# Altium schematic symbol library dinhdung.SCHLIB: 26 symbols
Pins are listed as number, name and electrical type; pins without a type are passive.

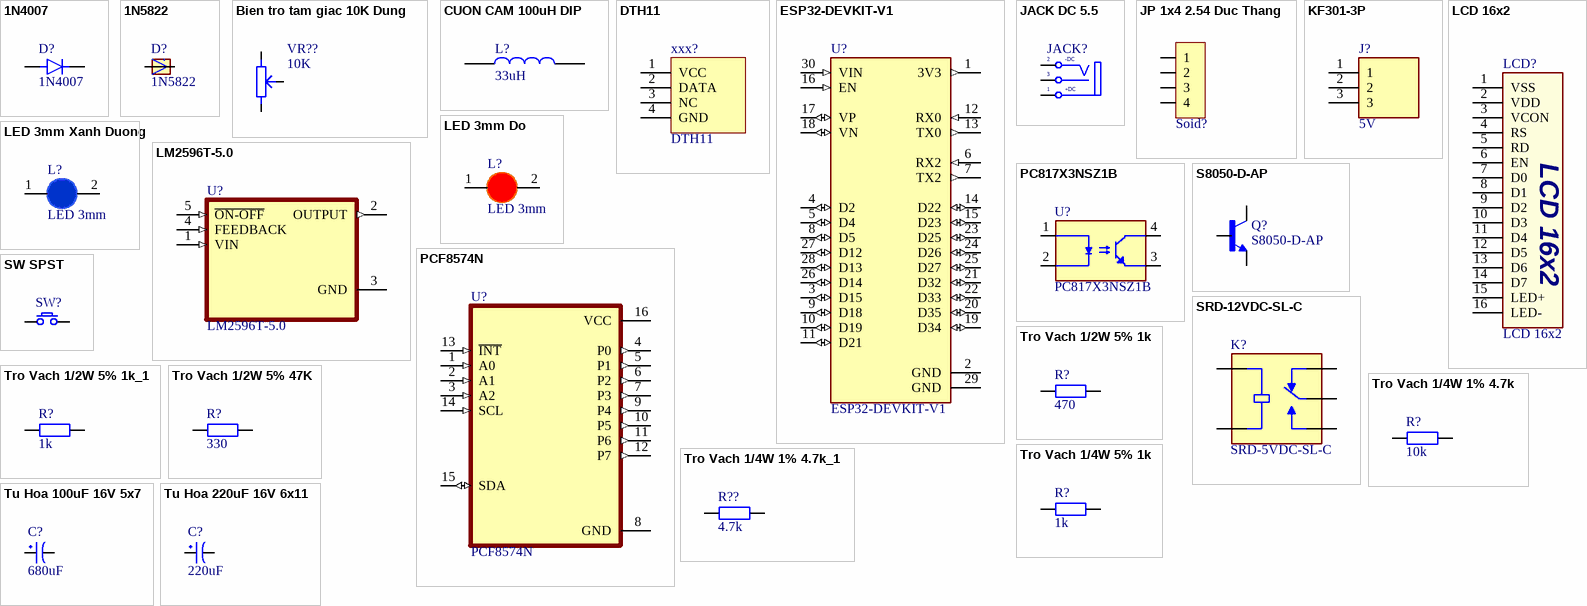
[diagram p0: symbols 1N4007 to Tu Hoa 220uF 16V 6x11]

## 1N4007
designator D?
Diode Switching 1KV 1A Automotive 2-Pin Ammo; MF: EIC; SnapEDA_Link: https://www.snapeda.com/parts/1N4007/EIC+Semiconductor/view-part/?ref=snap; Package: None; Value: *; MP: 1N4007; Check_prices: https://www.snapeda.com/parts/1N4007/EIC+Semiconductor/view-part/?ref=eda
footprint DIOAD1060W80L520D270
pins: A, C

## 1N5822
designator D?
Schottky, DO-201, 40V, 3A, 150Â°C; MF: Diotec Semiconductor; SnapEDA_Link: https://www.snapeda.com/parts/1N5822/Diotec/view-part/?ref=snap; Package: DO-201 Diotec; Value: *; MP: 1N5822; Check_prices: https://www.snapeda.com/parts/1N5822/Diotec/view-part/?ref=eda
footprint DIOAD2120W130L950D530P
pins: A, C

## Bien tro tam giac 10K Dung
designator VR??, comment 10K
Cắm; Ma_Hang: MH000919; Don_Vi: Con; Ten_Linh_Kien: Biến Trở Tam Giác 103-10K RM065 (Chân Đứng); Chung_Loai: Cắm; Kieu_Chan: *
footprint Bien Tro Tam Giac Dung (RM065)
pins: 1, 2, 3

## CUON CAM 100uH DIP
designator L?, comment 33uH
Dán; Don_Vi: Con; Ma_Hang: MH002209; Ten_Linh_Kien: Cuộn Cảm 100uH 3A 8x10MM; Chung_Loai: Dán; Ghi Chu: *; Kieu Chan: *
footprint CUON CAM 100uH3A (100uH3A)
pins: 1, 2

## DTH11
designator xxx?
Temperature and humidity module
footprint DTH11 (Temperature and humidity module)
footprint DTH11/H (Temperature and humidity module)
pins: 1 VCC "power supply 3.5～5.5V DC", 2 DATA "serial data, a single bus", 3 NC "empty pin", 4 GND "ground, the negative power"

## ESP32-DEVKIT-V1
designator U?
Dual core, Wi-Fi: 2.4 GHz up to 150 Mbits/s,BLE (Bluetooth Low Energy) and legacy Bluetooth, 32 bits, Up to 240 MHz; MF: Do it; SnapEDA_Link: https://www.snapeda.com/parts/ESP32-DEVKIT-V1/Do+it/view-part/?ref=snap; Package: None; Value: *; MP: ESP32-DEVKIT-V1; Check_prices: https://www.snapeda.com/parts/ESP32-DEVKIT-V1/Do+it/view-part/?ref=eda
footprint MODULE_ESP32_DEVKIT_V1
pins: 1 3V3 (out), 2 GND (power), 3 D15 (io), 4 D2 (io), 5 D4 (io), 6 RX2 (in), 7 TX2 (out), 8 D5 (io), 9 D18 (io), 10 D19 (io), 11 D21 (io), 12 RX0 (in), 13 TX0 (out), 14 D22 (io), 15 D23 (io), 16 EN (in), 17 VP (io), 18 VN (io), 19 D34 (io), 20 D35 (io), 21 D32 (io), 22 D33 (io), 23 D25 (io), 24 D26 (io), 25 D27 (io), 26 D14 (io), 27 D12 (io), 28 D13 (io), 29 GND (power), 30 VIN (in)

## JACK DC 5.5
designator JACK?
JACK DC 5.5; Value: Jac DC
footprint JACK DC 5.5 (Jac DC input)
pins: 1 T "Tip", 2 TN "Tip Normal (Break Contact)", 3 S (power) "Sleeve (Ground)"
text: -DC; +DC

## JP 1x4 2.54 Duc Thang
designator Soid?, comment JP 1x4 2.54  (value not drawn)
Cắm; Ten_Linh_Kien: Jump Đơn Đực 2.54MM 1x40P Thẳng 11MM; Don_Vi: Con; Ma_Hang: MH000903; Ghi_Chu: *; Kieu_Chan: *; Chung_Loai: Cắm
footprint JP 1x4 DT (4 pins, 1 row, straight, gold plating)
pins: 1, 2, 3, 4

## KF301-3P
designator J?, comment 5V
Terminal Block 5mm Pitch 3 Poles; Manufacturer_Name: Handson Technology; Manufacturer_Part_Number: KF301-3P; Geometry.Height: 10mm; Mouser Part Number: *; Mouser Price/Stock: *; Arrow Part Number: *; Arrow Price/Stock: *; Datasheet Link: http://www.handsontec.com/dataspecs/terminal%20block-5mm.pdf
footprint KF3013P
pins: 1, 2, 3

## LCD 16x2
designator LCD?
Character LCD 16x2
footprint LCD 16x2
footprint LCD 1602A
footprint LCD 1602B
pins: 1 VSS, 2 VDD, 3 VCON, 4 RS, 5 RD, 6 EN, 7 D0, 8 D1, 9 D2, 10 D3, 11 D4, 12 D5, 13 D6, 14 D7, 15 LED+, 16 LED-

## LED 3mm Do
designator L?, comment LED 3mm
Cắm; Don_Vi: Con; Ma_Hang: MH003892; Ten_Linh_Kien: Led 3MM Phủ Đỏ (10c); Ghi_Chu: *; Kieu_Chan: *; Chung_Loai: Cắm
footprint LED-3MM-RED
pins: 1 A, 2 K

## LED 3mm Xanh Duong
designator L?, comment LED 3mm
Cắm; Don_Vi: Con; Ma_Hang: MH009003; Ten_Linh_Kien: LED 3MM Xanh Dương SS (1000c); Ghi_Chu: *; Kieu_Chan: *; Chung_Loai: Cắm
footprint LED-3MM-BLUE
pins: 1 A, 2 K

## LM2596T-5.0
designator U?
SIMPLE SWITCHERÂ® 4.5V to 40V, 3A Low Component Count Step-Down Regulator 5-TO-220; MF: Texas Instruments; SnapEDA_Link: https://www.snapeda.com/parts/LM2596T-5.0/Texas+Instruments/view-part/?ref=snap; Package: TO-220-5 Texas Instruments; Value: *; MP: LM2596T-5.0; Check_prices: https://www.snapeda.com/parts/LM2596T-5.0/Texas+Instruments/view-part/?ref=eda
footprint TO170P1016X470X2092-5
pins: 1 VIN (in), 2 OUTPUT (out), 3 GND (power), 4 FEEDBACK (in), 5 ~{ON-OFF} (in)

## PC817X3NSZ1B
designator U?
Optoisolator Transistor Output - 1 Channel 4-DIP; MF: Sharp Microelectronics; SnapEDA_Link: https://www.snapeda.com/parts/PC817X3NSZ1B/Sharp+Microelectronics/view-part/?ref=snap; Price: None; Purchase-URL: https://pricing.snapeda.com/search/part/PC817X3NSZ1B/?ref=eda; Check_prices: https://www.snapeda.com/parts/PC817X3NSZ1B/Sharp+Microelectronics/view-part/?ref=eda; MP: PC817X3NSZ1B; Value: *; Availability: In Stock; Package: DIP-4 Sharp Microelectronics
footprint DIP762W50P254L495H455Q4
pins: 1 ANODE, 2 CATHODE, 3 EMITTER, 4 COLLECTOR

## PCF8574N
designator U?
8-bit 2.5- to 5.5-V I2C/SMBus I/O expander with interrupt; MF: Texas Instruments; SnapEDA_Link: https://www.snapeda.com/parts/PCF8574N/Texas+Instruments/view-part/?ref=snap; Package: PDIP-16 Texas Instruments; Value: *; MP: PCF8574N; Check_prices: https://www.snapeda.com/parts/PCF8574N/Texas+Instruments/view-part/?ref=eda
footprint DIP794W45P254L1969H508Q16
pins: 1 A0 (in), 2 A1 (in), 3 A2 (in), 4 P0 (out), 5 P1 (out), 6 P2 (out), 7 P3 (out), 8 GND (power), 9 P4 (out), 10 P5 (out), 11 P6 (out), 12 P7 (out), 13 ~{INT} (in), 14 SCL (in), 15 SDA (io), 16 VCC (power)

## S8050-D-AP
designator Q?
Bipolar (BJT) Transistor NPN 25 V 500 mA 150MHz 625 mW Through Hole TO-92; MF: Micro Commercial Co; SnapEDA_Link: https://www.snapeda.com/parts/S8050-D-AP/Micro+Commercial/view-part/?ref=snap; Package: TO-92 MCC; Value: *; MP: S8050-D-AP; Check_prices: https://www.snapeda.com/parts/S8050-D-AP/Micro+Commercial/view-part/?ref=eda
footprint TO92250P457H470-3B
pins: 1 E, 2 B, 3 C

## SRD-12VDC-SL-C
designator K?, comment SRD-5VDC-SL-C
General Purpose Non Latching 12VDC SPDT Through Hole Relays RoHS; MF: Songle Relay; MP: SRD-12VDC-SL-C; SnapEDA_Link: https://www.snapeda.com/parts/SRD-12VDC-SL-C/Songle+Relay/view-part/?ref=snap; Package: NON STANDARD-5 Songle Relay; Value: *; Check_prices: https://www.snapeda.com/parts/SRD-12VDC-SL-C/Songle+Relay/view-part/?ref=eda
footprint RELAY_SRD-12VDC-SL-C
pins: COIL1, COIL2, COM, NC, NO

## SW SPST
designator SW?, comment Button  (value not drawn)
Tact switch 2 pin
footprint SW/2/DIP
footprint SW/2/SMD
footprint SW/2/SMD/Micro
footprint SW/4/SMD
footprint SW/2/DIP/Edge/4.5mm
footprint SW/4/SMD/XS
pins: 1, 2

## Tro Vach 1/2W 5% 1k
designator R?, comment 470
Cắm; Don_Vi: Con; So_Chan: 2; Ten_Linh_Kien: Trở 5% 1/2w 1K; Ma_Hang: MH007240; Chung_Loai: Cắm; Kieu_Chan: *
footprint tro vach 1/2w
pins: 1, 2

## Tro Vach 1/2W 5% 1k_1
designator R?, comment 1k
Cắm; Don_Vi: Con; So_Chan: 2; Ten_Linh_Kien: Trở 5% 1/2w 1K; Ma_Hang: MH007240; Chung_Loai: Cắm; Kieu_Chan: *
footprint tro vach 1/2w
pins: 1, 2

## Tro Vach 1/2W 5% 47K
designator R?, comment 330
Cắm; Don_Vi: Con; So_Chan: 2; Ten_Linh_Kien: Trở 5% 1/2w 47k; Ma_Hang: MH008002; Chung_Loai: Cắm; Kieu_Chan: *
footprint tro vach 1/2w
pins: 1, 2

## Tro Vach 1/4W 1% 4.7k
designator R?, comment 10k
Cắm; Don_Vi: Con; So_Chan: 2; Ten_Linh_Kien: Trở Vạch 1/4w 1% 4.7k; Ma_Hang: MH006350; Chung_Loai: Cắm; Kieu_Chan: *
footprint tro vach 1/4w
pins: 1, 2

## Tro Vach 1/4W 1% 4.7k_1
designator R??, comment 4.7k
Cắm; Don_Vi: Con; So_Chan: 2; Ten_Linh_Kien: Trở Vạch 1/4w 1% 4.7k; Ma_Hang: MH006350; Chung_Loai: Cắm; Kieu_Chan: *
footprint tro vach 1/4w
pins: 1, 2

## Tro Vach 1/4W 5% 1k
designator R?, comment 1k
Cắm; Don_Vi: Con; So_Chan: 2; Ten_Linh_Kien: Trở Vạch 1/4w 5% 1k; Ma_Hang: MH007390; Chung_Loai: Cắm; Kieu_Chan: *
footprint tro vach 1/4w
pins: 1, 2

## Tu Hoa 100uF 16V 5x7
designator C?, comment 680uF
Cắm; Don_Vi: Con; So_Chan: 2; Ten_Linh_Kien: Tụ Hóa 100uF 16V 5x7MM; Ma_Hang: MH001347; Chung_Loai: Cắm; Kieu_Chan: *
footprint tu hoa 5mm
pins: 1, 2

## Tu Hoa 220uF 16V 6x11
designator C?, comment 220uF
Cắm; Don_Vi: Con; So_Chan: 2; Ten_Linh_Kien: Tụ Hóa 220uF 16V 6x11MM; Ma_Hang: MH001348; Chung_Loai: Cắm; Kieu_Chan: *
footprint Tu hoa 5mm
pins: 1, 2